# EAGLE library part WS2803 (library WS2803)
WS2803 18 Channel Constant Current LED Driver with programmable PWM outputs.
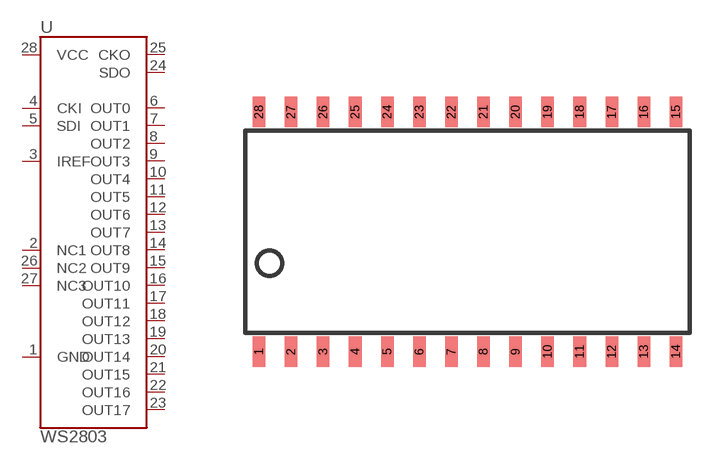
[diagram p0: symbol with the pads of SOP-28; footprint SOP-28]

Designator prefix U

## WS2803  [SOP-28]
1  GND
2  NC1
3  IREF
4  CKI
5  SDI
6  OUT0
7  OUT1
8  OUT2
9  OUT3
10  OUT4
11  OUT5
12  OUT6
13  OUT7
14  OUT8
15  OUT9
16  OUT10
17  OUT11
18  OUT12
19  OUT13
20  OUT14
21  OUT15
22  OUT16
23  OUT17
24  SDO
25  CKO
26  NC2
27  NC3
28  VCC

## Footprint SOP-28 (pad centres in mm)
smd 0.5 x 1.2: 1 -7.62,-4.5; 2 -6.35,-4.5; 3 -5.08,-4.5; 4 -3.81,-4.5; 5 -2.54,-4.5; 6 -1.27,-4.5; 7 0,-4.5; 8 1.27,-4.5; 9 2.54,-4.5; 10 3.81,-4.5; 11 5.08,-4.5; 12 6.35,-4.5; 13 7.62,-4.5; 14 8.89,-4.5; 15 8.89,5; 16 7.62,5; 17 6.35,5; 18 5.08,5; 19 3.81,5; 20 2.54,5; 21 1.27,5; 22 0,5; 23 -1.27,5; 24 -2.54,5; 25 -3.81,5; 26 -5.08,5; 27 -6.35,5; 28 -7.62,5